# EAGLE library part TLC5951 (library eagle-library-edeca.net-v5)
TLC5951 24-Channel, 12-Bit PWM LED Driver with 7-Bit Dot Correction and 3-Group, 8-Bit Global Brightness Control This part uses the "correct" footprint from texas.lbr
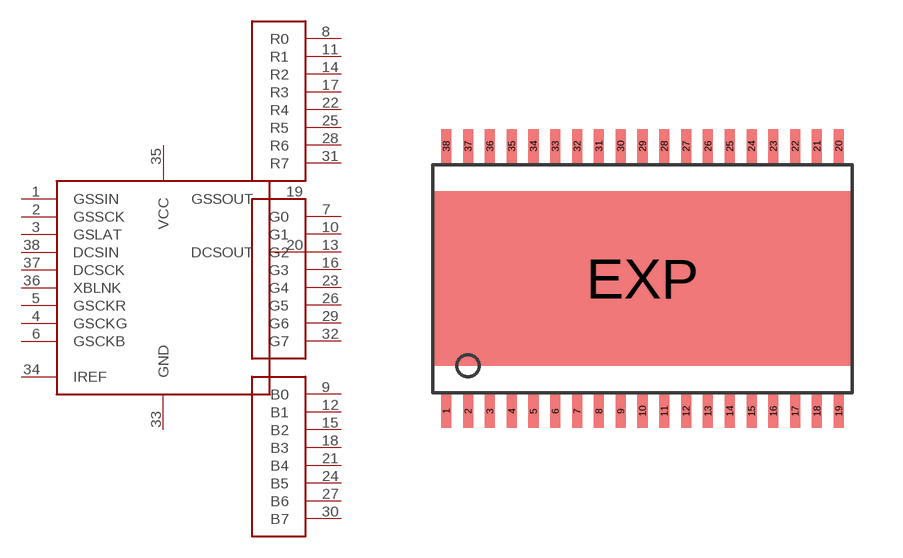
[diagram p19: symbol with the pads of HTSSOP38DAP; footprint HTSSOP38DAP]

Designator prefix -; gates BLUE=8BLUE GREEN=8GREEN RED=8RED CHIP=TLC5951

## TLC5951  [HTSSOP38DAP]
1  CHIP:GSSIN
2  CHIP:GSSCK
3  CHIP:GSLAT
4  CHIP:GSCKG
5  CHIP:GSCKR
6  CHIP:GSCKB
7  GREEN:G0  in
8  RED:R0  in
9  BLUE:B0  in
10  GREEN:G1  in
11  RED:R1  in
12  BLUE:B1  in
13  GREEN:G2  in
14  RED:R2  in
15  BLUE:B2  in
16  GREEN:G3  in
17  RED:R3  in
18  BLUE:B3  in
19  CHIP:GSSOUT
20  CHIP:DCSOUT
21  BLUE:B4  in
22  RED:R4  in
23  GREEN:G4  in
24  BLUE:B5  in
25  RED:R5  in
26  GREEN:G5  in
27  BLUE:B6  in
28  RED:R6  in
29  GREEN:G6  in
30  BLUE:B7  in
31  RED:R7  in
32  GREEN:G7  in
33  CHIP:GND
34  CHIP:IREF
35  CHIP:VCC
36  CHIP:XBLNK
37  CHIP:DCSCK
38  CHIP:DCSIN

## Footprint HTSSOP38DAP (pad centres in mm)
PowerPAD(TM) PLASTIC SMALL-OUTLINE PACKAGE DAP (R-PDSO-G**) Source: http://focus.ti.com/lit/ml/mpds029b/mpds029b.pdf / slma002.pdf (from Texas.lbr)
smd 0.3 x 1: 1 -5.85,-3.95; 2 -5.2,-3.95; 3 -4.55,-3.95; 4 -3.9,-3.95; 5 -3.25,-3.95; 6 -2.6,-3.95; 7 -1.95,-3.95; 8 -1.3,-3.95; 9 -0.65,-3.95; 10 0,-3.95; 11 0.65,-3.95; 12 1.3,-3.95; 13 1.95,-3.95; 14 2.6,-3.95; 15 3.25,-3.95; 16 3.9,-3.95; 17 4.55,-3.95; 18 5.2,-3.95; 19 5.85,-3.95; 20 5.85,3.95; 21 5.2,3.95; 22 4.55,3.95; 23 3.9,3.95; 24 3.25,3.95; 25 2.6,3.95; 26 1.95,3.95; 27 1.3,3.95; 28 0.65,3.95; 29 0,3.95; 30 -0.65,3.95; 31 -1.3,3.95; 32 -1.95,3.95; 33 -2.6,3.95; 34 -3.25,3.95; 35 -3.9,3.95; 36 -4.55,3.95; 37 -5.2,3.95; 38 -5.85,3.95
smd 12.5 x 5.2: EXP 0,0